# Altium schematic symbol library memory_sdram_ddr4.SchLib: 2 symbols
Pins are listed as number, name and electrical type; pins without a type are passive.

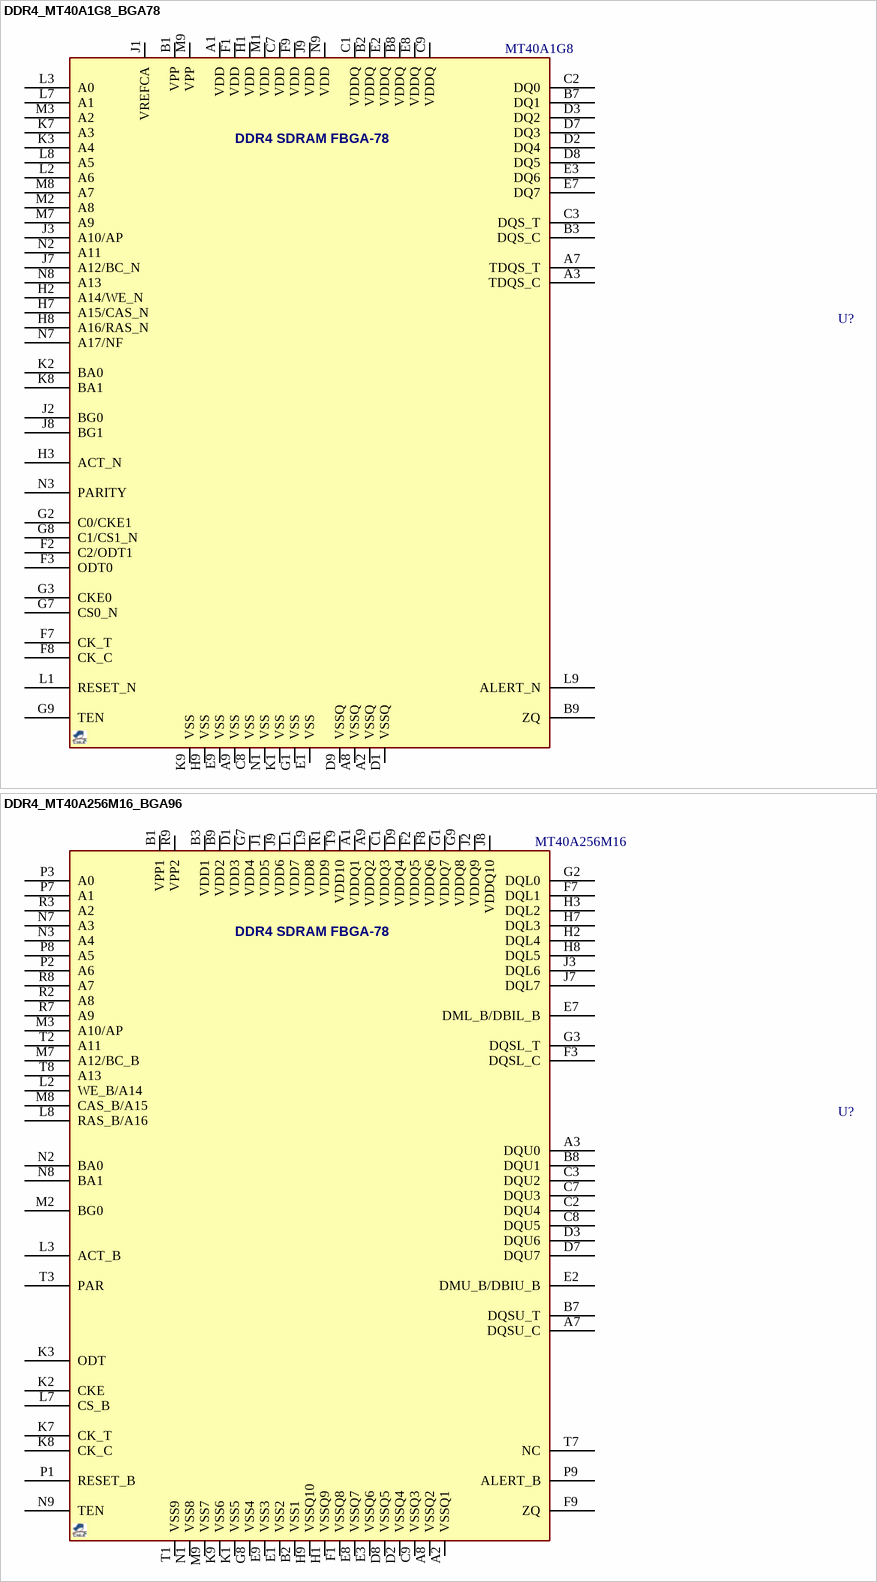
[diagram p0: symbols DDR4_MT40A1G8_BGA78 to DDR4_MT40A256M16_BGA96]

## DDR4_MT40A1G8_BGA78
designator U?, comment MT40A1G8
DDR4 SDRAM, 8Gb (1Gb X8), 1.2V, FBGA-78; MANF: MICRON; MANF_P#: MT40A1G8SA-062E; PARAM2: 1.2VDDQ, 2.5VPP; VALUE: MT40A1G8
footprint BGA80_78_10X12 (BGA_78 7.5X11mm, 9.5X11.5mm, 10.5X12mm)
pins: A1 VDD, A2 VSSQ, A3 TDQS_C, A7 TDQS_T, A8 VSSQ, A9 VSS, B1 VPP, B2 VDDQ, B3 DQS_C, B7 DQ1, B8 VDDQ, B9 ZQ, C1 VDDQ, C2 DQ0, C3 DQS_T, C7 VDD, C8 VSS, C9 VDDQ, D1 VSSQ, D2 DQ4, D3 DQ2, D7 DQ3, D8 DQ5, D9 VSSQ, E1 VSS, E2 VDDQ, E3 DQ6, E7 DQ7, E8 VDDQ, E9 VSS, F1 VDD, F2 C2/ODT1, F3 ODT0, F7 CK_T, F8 CK_C, F9 VDD, G1 VSS, G2 C0/CKE1, G3 CKE0, G7 CS0_N, G8 C1/CS1_N, G9 TEN, H1 VDD, H2 A14/WE_N, H3 ACT_N, H7 A15/CAS_N, H8 A16/RAS_N, H9 VSS, J1 VREFCA, J2 BG0, J3 A10/AP, J7 A12/BC_N, J8 BG1, J9 VDD, K1 VSS, K2 BA0, K3 A4, K7 A3, K8 BA1, K9 VSS, L1 RESET_N, L2 A6, L3 A0, L7 A1, L8 A5, L9 ALERT_N, M1 VDD, M2 A8, M3 A2, M7 A9, M8 A7, M9 VPP, N1 VSS, N2 A11, N3 PARITY, N7 A17/NF, N8 A13, N9 VDD
text: DDR4 SDRAM FBGA-78

## DDR4_MT40A256M16_BGA96
designator U?, comment MT40A256M16
DDR4 SDRAM, 4Gb (256Mb X16), 1.2V, FBGA-96; MANF: MICRON; MANF_P#: MT40A256M16GE-083E; PARAM2: 1.2VDDQ, 2.5VPP; VALUE: MT40A256M16
footprint BGA80_96_9X16B (96-Ball FBGA, 0.8mm pitch, 14x10x1.1 mm)
pins: A1 VDDQ1, A2 VSSQ1, A3 DQU0, A7 DQSU_C, A8 VSSQ2, A9 VDDQ2, B1 VPP1, B2 VSS1, B3 VDD1, B7 DQSU_T, B8 DQU1, B9 VDD2, C1 VDDQ3, C2 DQU4, C3 DQU2, C7 DQU3, C8 DQU5, C9 VSSQ3, D1 VDD3, D2 VSSQ4, D3 DQU6, D7 DQU7, D8 VSSQ5, D9 VDDQ4, E1 VSS2, E2 DMU_B/DBIU_B, E3 VSSQ6, E7 DML_B/DBIL_B, E8 VSSQ7, E9 VSS3, F1 VSSQ8, F2 VDDQ5, F3 DQSL_C, F7 DQL1, F8 VDDQ6, F9 ZQ, G1 VDDQ7, G2 DQL0, G3 DQSL_T, G7 VDD4, G8 VSS4, G9 VDDQ8, H1 VSSQ9, H2 DQL4, H3 DQL2, H7 DQL3, H8 DQL5, H9 VSSQ10, J1 VDD5, J2 VDDQ9, J3 DQL6, J7 DQL7, J8 VDDQ10, J9 VDD6, K1 VSS5, K2 CKE, K3 ODT, K7 CK_T, K8 CK_C, K9 VSS6, L1 VDD7, L2 WE_B/A14, L3 ACT_B, L7 CS_B, L8 RAS_B/A16, L9 VDD8, M2 BG0, M3 A10/AP, M7 A12/BC_B, M8 CAS_B/A15, M9 VSS7, N1 VSS8, N2 BA0, N3 A4, N7 A3, N8 BA1, N9 TEN, P1 RESET_B, P2 A6, P3 A0, P7 A1, P8 A5, P9 ALERT_B, R1 VDD9, R2 A8, R3 A2, R7 A9, R8 A7, R9 VPP2, T1 VSS9, T2 A11, T3 PAR, T7 NC, T8 A13, T9 VDD10
text: DDR4 SDRAM FBGA-78